# Altium footprint library SOT91P240X110-3N.PcbLib: 1 footprints
Each footprint in its own frame and in the unit in brackets; x right, y up, seen from the top. Pads: shape width x height; smd on the part's side, far side on the other; paste and mask are expansions set on the pad; w line width, h text height; cw(c..) or ccw(c..) is an arc to the next point about the centre after c.
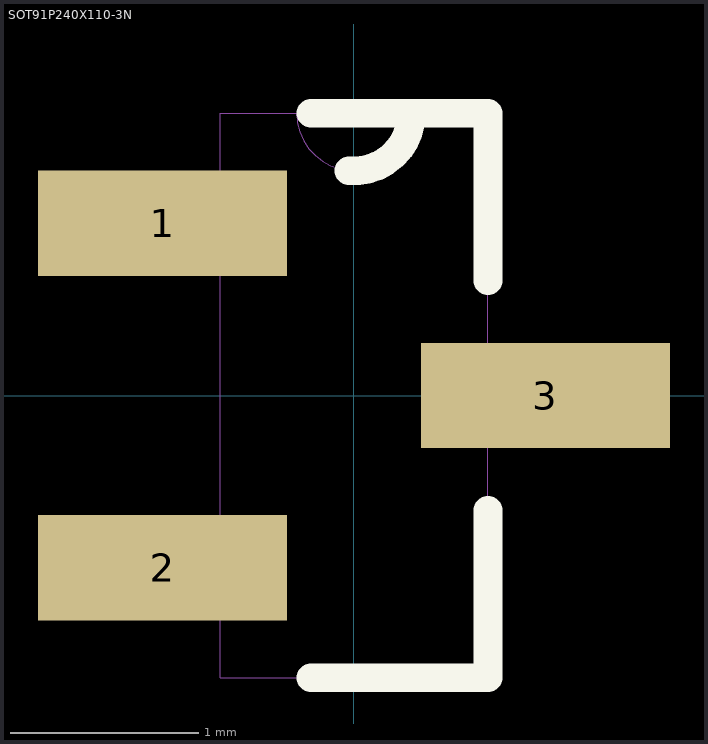
[diagram p0: the footprint, top view; thin cyan lines are the x and y axes]

## SOT91P240X110-3N [mil]
pads (3):
  rect 52x22 smd: 1(-40,36) 2(-40,-36) 3(40,0)
Top Overlay:
  lines w6: -9,-59 28,-59 28,-24 ; -9,59 12,59 28,59 28,24 ; -1.04,47 ccw(c0,58.96) 12,58.96
Mechanical 13:
  lines w0: -28,-46 -28,-59 28,-59 28,-10 ; -28,-46 -28,-26 ; -28,-46 -49,-46 -49,-26 -28,-26 ; -28,-26 -28,26 ; -28,26 -28,46 ; -28,26 -49,26 -49,46 -28,46 ; -28,46 -28,59 -12,59 ; -12,59 ccw(c0,59) 12,59 ; -12,59 12,59 ; 12,59 28,59 28,10 ; 28,-10 28,10 ; 28,-10 49,-10 49,10 28,10
3D body "CircuitWorks-SOT-23.step": height 41.65, standoff -1.65, extent -49.21,-59.05 49.21,59.06